# EAGLE library part ATTINY1616 (library graftel-internal-ic)
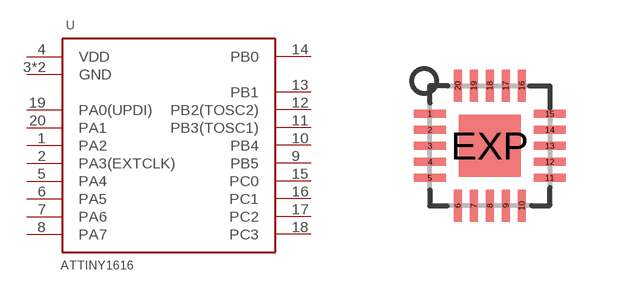
[diagram p62: symbol with the pads of VQFN-20-LARGE; footprint VQFN-20-LARGE]

Designator prefix U

## ATTINY1616 (PARTNO: ATTINY1616-MNRCT-ND)  [VQFN-20-LARGE]
1  PA2
2  PA3(EXTCLK)
3  GND
4  VDD
5  PA4
6  PA5
7  PA6
8  PA7
9  PB5
10  PB4
11  PB3(TOSC1)
12  PB2(TOSC2)
13  PB1
14  PB0
15  PC0
16  PC1
17  PC2
18  PC3
19  PA0(UPDI)
20  PA1
EXP  GND

## Footprint VQFN-20-LARGE (pad centres in mm)
ES Package, 20-Contact QFN with Exposed Thermal Pad Data sheet <http://www.allegromicro.com/en/Products/Part_Numbers/3906/3906.pdf>
smd 0.8 x 0.2: 1 -1.5,0.8; 2 -1.5,0.4; 3 -1.5,0; 4 -1.5,-0.4; 5 -1.5,-0.8; 11 1.5,-0.8; 12 1.5,-0.4; 13 1.5,0; 14 1.5,0.4; 15 1.5,0.8
smd 0.2 x 0.8: 6 -0.8,-1.5; 7 -0.4,-1.5; 8 0,-1.5; 9 0.4,-1.5; 10 0.8,-1.5; 16 0.8,1.5; 17 0.4,1.5; 18 0,1.5; 19 -0.4,1.5; 20 -0.8,1.5
smd 1.55 x 1.55: EXP 0,0